# Altium schematic symbol library RF_ZigBee.SchLib: 7 symbols
Pins are listed as number, name and electrical type; pins without a type are passive.

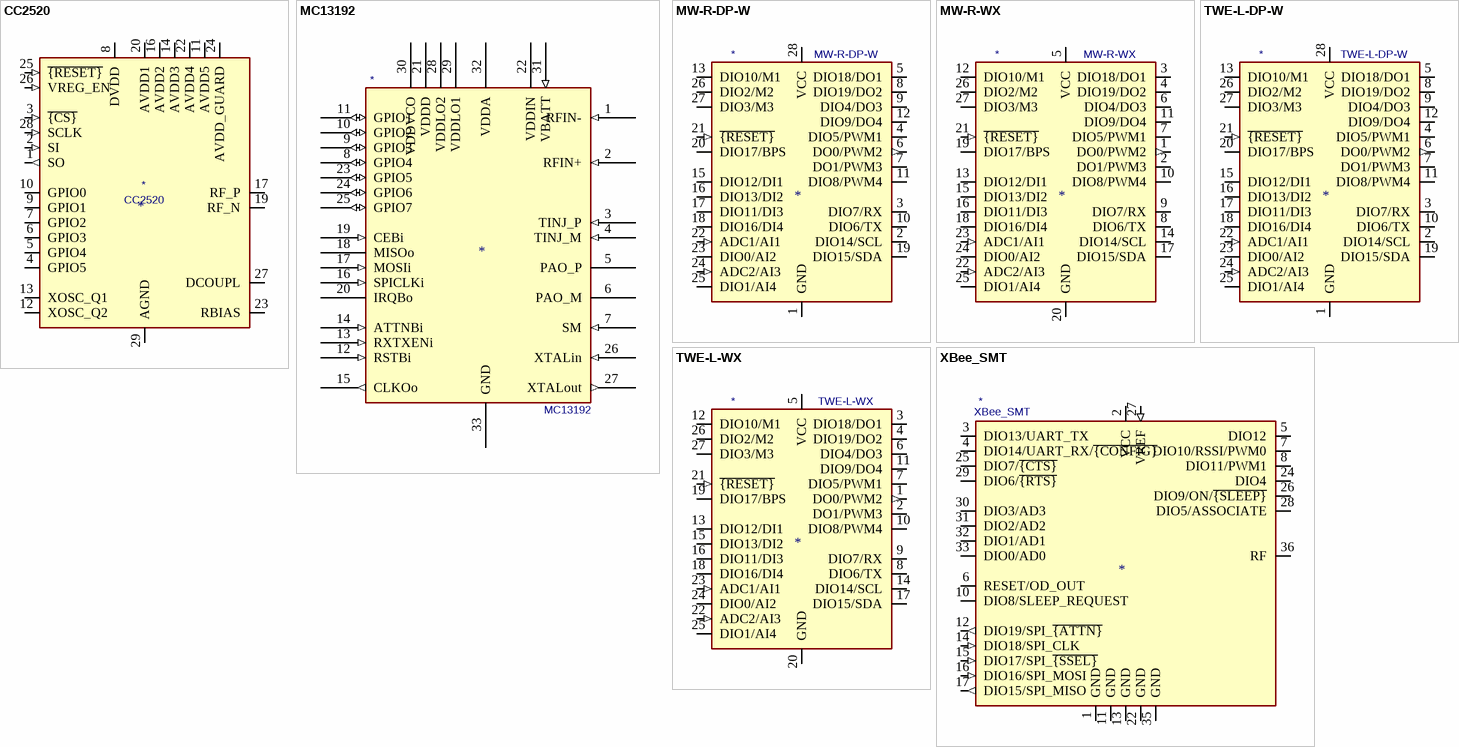
[diagram p0: symbols CC2520 to XBee_SMT]

## CC2520
designator *  value CC2520
ki_keywords: 2.4GHz rf transceiver ZigBee 802.15.4; ki_description: 2.4 GHz ZigBee/IEEE 802.15.4 RF transceiver; ki_fp_filters: *QFN*28*5x5mm*P0.5mm*; Footprint: Package_DFN_QFN:QFN-28-1EP_5x5mm_P0.5mm_EP3.35x3.35mm; Supplier: http://www.ti.com/lit/gpn/cc2520
footprint QFN-28-1EP_5x5mm_P0.5mm_EP3.35x3.35mm
pins: 1 SO (out), 2 SI (in), 3 ~{{CS}} (in), 4 GPIO5 (io), 5 GPIO4 (io), 6 GPIO3 (io), 7 GPIO2 (io), 8 DVDD (power), 9 GPIO1 (io), 10 GPIO0 (io), 11 AVDD5 (power), 12 XOSC_Q2, 13 XOSC_Q1, 14 AVDD3 (power), 15 NC (in) hidden, 16 AVDD2 (power), 17 RF_P, 19 RF_N, 20 AVDD1 (power), 21 NC (in) hidden, 22 AVDD4 (power), 23 RBIAS, 24 AVDD_GUARD (power), 25 ~{{RESET}} (in), 26 VREG_EN (in), 27 DCOUPL, 28 SCLK (in), 29 AGND (power)

## MC13192
designator *  value MC13192
ki_keywords: ZIGBEE; ki_description: 2.4 GHz, Low Power Transceiver for 802.15.4 (Zigbee controller); Supplier: https://www.nxp.com/products/no-longer-manufactured/2.4-ghz-low-power-transceiver-for-802.15.4:MC13192
pins: 1 RFIN- (in), 2 RFIN+ (in), 3 TINJ_P (in), 4 TINJ_M (in), 5 PAO_P (oc), 6 PAO_M (oc), 7 SM (in), 8 GPIO4 (io), 9 GPIO3 (io), 10 GPIO2 (io), 11 GPIO1 (io), 12 RSTBi (in), 13 RXTXENi (in), 14 ATTNBi (in), 15 CLKOo (out), 16 SPICLKi (in), 17 MOSIi (in), 18 MISOo (hiz), 19 CEBi (in), 20 IRQBo (oc), 21 VDDD (power), 22 VDDIN (power), 23 GPIO5 (io), 24 GPIO6 (io), 25 GPIO7 (io), 26 XTALin (in), 27 XTALout (out), 28 VDDLO2 (power), 29 VDDLO1 (power), 30 VDDVCO (power), 31 VBATT (in), 32 VDDA (power), 33 GND (power)

## MW-R-DP-W
designator *  value MW-R-DP-W
ki_keywords: TWELITE; ki_description: NXP JN5164/JN5169 breakout module, DIP; ki_fp_filters: DIP*28*W15.24mm*; Footprint: Package_DIP:DIP-28_W15.24mm; Supplier: https://www.mono-wireless.com/jp/products/TWE-Lite-DIP/MW-PDS-TWELITEDIP-JP.pdf
footprint DIP-28_W15.24mm
pins: 1 GND (power), 2 DIO14/SCL (io), 3 DIO7/RX (io), 4 DIO5/PWM1 (io), 5 DIO18/DO1 (io), 6 DO0/PWM2 (out), 7 DO1/PWM3 (io), 8 DIO19/DO2 (io), 9 DIO4/DO3 (io), 10 DIO6/TX (io), 11 DIO8/PWM4 (io), 12 DIO9/DO4 (io), 13 DIO10/M1 (io), 14 GND hidden, 15 DIO12/DI1 (io), 16 DIO13/DI2 (io), 17 DIO11/DI3 (io), 18 DIO16/DI4 (io), 19 DIO15/SDA (io), 20 DIO17/BPS (io), 21 ~{{RESET}} (in), 22 ADC1/AI1 (in), 23 DIO0/AI2 (io), 24 ADC2/AI3 (in), 25 DIO1/AI4 (io), 26 DIO2/M2 (io), 27 DIO3/M3 (io), 28 VCC (power)

## MW-R-WX
designator *  value MW-R-WX
ki_keywords: TWELITE; ki_description: NXP JN5164/JN5169 breakout module, SMD; ki_fp_filters: MonoWireless?TWE*; Footprint: RF_Module:MonoWireless_TWE-L-WX; Supplier: https://www.mono-wireless.com/jp/products/TWE-LITE/MW-PDS-TWELITE-JP.pdf
footprint MonoWireless_TWE-L-WX
pins: 1 DO0/PWM2 (out), 2 DO1/PWM3 (io), 3 DIO18/DO1 (io), 4 DIO19/DO2 (io), 5 VCC (power), 6 DIO4/DO3 (io), 7 DIO5/PWM1 (io), 8 DIO6/TX (io), 9 DIO7/RX (io), 10 DIO8/PWM4 (io), 11 DIO9/DO4 (io), 12 DIO10/M1 (io), 13 DIO12/DI1 (io), 14 DIO14/SCL (io), 15 DIO13/DI2 (io), 16 DIO11/DI3 (io), 17 DIO15/SDA (io), 18 DIO16/DI4 (io), 19 DIO17/BPS (io), 20 GND (power), 21 ~{{RESET}} (in), 22 ADC2/AI3 (in), 23 ADC1/AI1 (in), 24 DIO0/AI2 (io), 25 DIO1/AI4 (io), 26 DIO2/M2 (io), 27 DIO3/M3 (io), 28 GND hidden, 29 NC (in) hidden, 30 GND hidden, 31 GND hidden, 32 GND hidden

## TWE-L-DP-W
designator *  value TWE-L-DP-W
ki_keywords: TWELITE; ki_description: NXP JN5164/JN5169 breakout module, DIP; ki_fp_filters: DIP*28*W15.24mm*; Footprint: Package_DIP:DIP-28_W15.24mm; Supplier: https://www.mono-wireless.com/jp/products/TWE-Lite-DIP/MW-PDS-TWELITEDIP-JP.pdf
footprint DIP-28_W15.24mm
pins: 1 GND (power), 2 DIO14/SCL (io), 3 DIO7/RX (io), 4 DIO5/PWM1 (io), 5 DIO18/DO1 (io), 6 DO0/PWM2 (out), 7 DO1/PWM3 (io), 8 DIO19/DO2 (io), 9 DIO4/DO3 (io), 10 DIO6/TX (io), 11 DIO8/PWM4 (io), 12 DIO9/DO4 (io), 13 DIO10/M1 (io), 14 GND hidden, 15 DIO12/DI1 (io), 16 DIO13/DI2 (io), 17 DIO11/DI3 (io), 18 DIO16/DI4 (io), 19 DIO15/SDA (io), 20 DIO17/BPS (io), 21 ~{{RESET}} (in), 22 ADC1/AI1 (in), 23 DIO0/AI2 (io), 24 ADC2/AI3 (in), 25 DIO1/AI4 (io), 26 DIO2/M2 (io), 27 DIO3/M3 (io), 28 VCC (power)

## TWE-L-WX
designator *  value TWE-L-WX
ki_keywords: TWELITE; ki_description: NXP JN5164/JN5169 breakout module, SMD; ki_fp_filters: MonoWireless?TWE*; Footprint: RF_Module:MonoWireless_TWE-L-WX; Supplier: https://www.mono-wireless.com/jp/products/TWE-LITE/MW-PDS-TWELITE-JP.pdf
footprint MonoWireless_TWE-L-WX
pins: 1 DO0/PWM2 (out), 2 DO1/PWM3 (io), 3 DIO18/DO1 (io), 4 DIO19/DO2 (io), 5 VCC (power), 6 DIO4/DO3 (io), 7 DIO5/PWM1 (io), 8 DIO6/TX (io), 9 DIO7/RX (io), 10 DIO8/PWM4 (io), 11 DIO9/DO4 (io), 12 DIO10/M1 (io), 13 DIO12/DI1 (io), 14 DIO14/SCL (io), 15 DIO13/DI2 (io), 16 DIO11/DI3 (io), 17 DIO15/SDA (io), 18 DIO16/DI4 (io), 19 DIO17/BPS (io), 20 GND (power), 21 ~{{RESET}} (in), 22 ADC2/AI3 (in), 23 ADC1/AI1 (in), 24 DIO0/AI2 (io), 25 DIO1/AI4 (io), 26 DIO2/M2 (io), 27 DIO3/M3 (io), 28 GND hidden, 29 NC (in) hidden, 30 GND hidden, 31 GND hidden, 32 GND hidden

## XBee_SMT
designator *  value XBee_SMT
ki_keywords: Digi XBee; ki_description: Digi Xbee SMT RF module; ki_fp_filters: Digi*XBee*SMT*; Footprint: RF_Module:Digi_XBee_SMT; Supplier: http://www.digi.com/resources/documentation/digidocs/pdfs/90002126.pdf
footprint Digi_XBee_SMT
pins: 1 GND (power), 2 VCC (power), 3 DIO13/UART_TX (io), 4 DIO14/UART_RX/~{{CONFIG}} (io), 5 DIO12 (io), 6 RESET/OD_OUT (io), 7 DIO10/RSSI/PWM0 (io), 8 DIO11/PWM1 (io), 9 NC (in) hidden, 10 DIO8/SLEEP_REQUEST (io), 11 GND (power), 12 DIO19/SPI_~{{ATTN}} (out), 13 GND (power), 14 DIO18/SPI_CLK (in), 15 DIO17/SPI_~{{SSEL}} (in), 16 DIO16/SPI_MOSI (in), 17 DIO15/SPI_MISO (out), 18 NC (in) hidden, 19 NC (in) hidden, 20 NC (in) hidden, 21 NC (in) hidden, 22 GND (power), 23 NC (in) hidden, 24 DIO4 (io), 25 DIO7/~{{CTS}} (io), 26 DIO9/ON/~{{SLEEP}} (io), 27 VREF (in), 28 DIO5/ASSOCIATE (io), 29 DIO6/~{{RTS}} (io), 30 DIO3/AD3 (io), 31 DIO2/AD2 (io), 32 DIO1/AD1 (io), 33 DIO0/AD0 (io), 34 NC (in) hidden, 35 GND (power), 36 RF (io), 37 NC (in) hidden